# EAGLE library part IMU_LSM9DS1TR (library quadparts_jason)
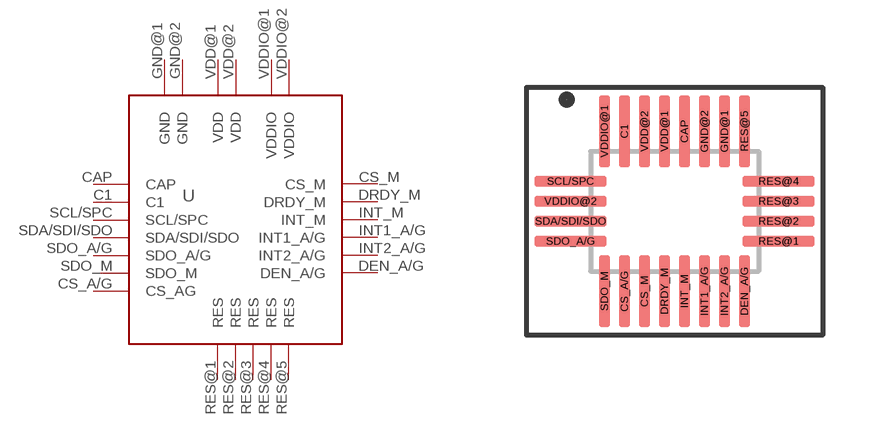
[diagram p0: symbol with the pads of IMU_LSM9DS1TR; footprint IMU_LSM9DS1TR]

Designator prefix U

## IMU_LSM9DS1TR (CREATOR: Jason Shiuan; DIST: Digikey; DISTPN: 497-14946-1-ND; MFR: STMicroelectronics; MPN: LSM9DS1TR)  [IMU_LSM9DS1TR]
C1  C1
CAP  CAP
CS_A/G  CS_AG
CS_M  CS_M
DEN_A/G  DEN_A/G
DRDY_M  DRDY_M
GND@1  GND  pwr
GND@2  GND  pwr
INT1_A/G  INT1_A/G
INT2_A/G  INT2_A/G
INT_M  INT_M
RES@1  RES
RES@2  RES
RES@3  RES
RES@4  RES
RES@5  RES
SCL/SPC  SCL/SPC
SDA/SDI/SDO  SDA/SDI/SDO
SDO_A/G  SDO_A/G
SDO_M  SDO_M
VDD@1  VDD  pwr
VDD@2  VDD  pwr
VDDIO@1  VDDIO  pwr
VDDIO@2  VDDIO  pwr

## Footprint IMU_LSM9DS1TR (pad centres in mm)
smd 0.28 x 1.8: C1 -1.25,2; CAP 0.25,2; CS_A/G -1.25,-2; CS_M -0.75,-2; DEN_A/G 1.75,-2; DRDY_M -0.25,-2; GND@1 1.25,2; GND@2 0.75,2; INT1_A/G 0.75,-2; INT2_A/G 1.25,-2; INT_M 0.25,-2; RES@5 1.75,2; SDO_M -1.75,-2; VDD@1 -0.25,2; VDD@2 -0.75,2; VDDIO@1 -1.75,2
smd 1.8 x 0.28: RES@1 2.6,-0.75; RES@2 2.6,-0.25; RES@3 2.6,0.25; RES@4 2.6,0.75; SCL/SPC -2.6,0.75; SDA/SDI/SDO -2.6,-0.25; SDO_A/G -2.6,-0.75; VDDIO@2 -2.6,0.25